# EAGLE library part ESP32_DEVKITC (library esp32_DevKitC)
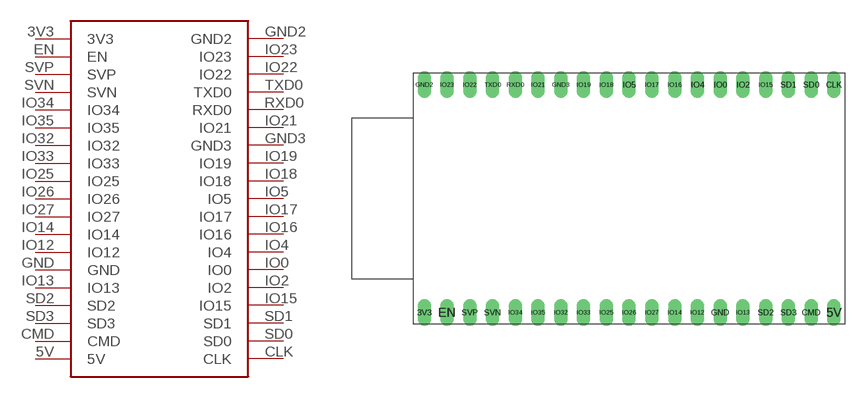
[diagram p0: symbol with the pads of ESP32_DEVKITC; footprint ESP32_DEVKITC]

Designator prefix -

## ESP32_DEVKITC  [ESP32_DEVKITC]
3V3  3V3
5V  5V
CLK  CLK
CMD  CMD
EN  EN
GND  GND
GND2  GND2
GND3  GND3
IO0  IO0
IO2  IO2
IO4  IO4
IO5  IO5
IO12  IO12
IO13  IO13
IO14  IO14
IO15  IO15
IO16  IO16
IO17  IO17
IO18  IO18
IO19  IO19
IO21  IO21
IO22  IO22
IO23  IO23
IO25  IO25
IO26  IO26
IO27  IO27
IO32  IO32
IO33  IO33
IO34  IO34
IO35  IO35
RXD0  RXD0
SD0  SD0
SD1  SD1
SD2  SD2
SD3  SD3
SVN  SVN
SVP  SVP
TXD0  TXD0

## Footprint ESP32_DEVKITC (pad centres in mm)
drill 1.016 long: 3V3 -22.86,-12.71; 5V 22.86,-12.7; CLK 22.86,12.7; CMD 20.32,-12.7; EN -20.32,-12.7; GND 10.16,-12.7; GND2 -22.86,12.7; GND3 -7.62,12.7; IO0 10.16,12.7; IO2 12.7,12.7; IO4 7.62,12.7; IO5 0,12.7; IO12 7.62,-12.7; IO13 12.7,-12.7; IO14 5.08,-12.7; IO15 15.24,12.7; IO16 5.08,12.7; IO17 2.54,12.7; IO18 -2.54,12.7; IO19 -5.08,12.7; IO21 -10.16,12.7; IO22 -17.78,12.7; IO23 -20.32,12.7; IO25 -2.54,-12.7; IO26 0,-12.7; IO27 2.54,-12.7; IO32 -7.62,-12.7; IO33 -5.08,-12.7; IO34 -12.7,-12.7; IO35 -10.16,-12.7; RXD0 -12.7,12.7; SD0 20.32,12.7; SD1 17.78,12.7; SD2 15.24,-12.7; SD3 17.78,-12.7; SVN -15.24,-12.7; SVP -17.78,-12.7; TXD0 -15.24,12.7